# EAGLE library part MOUDLE-SEEEDUINO-XIAO (library tecsmith_seeedstudio_xiao)
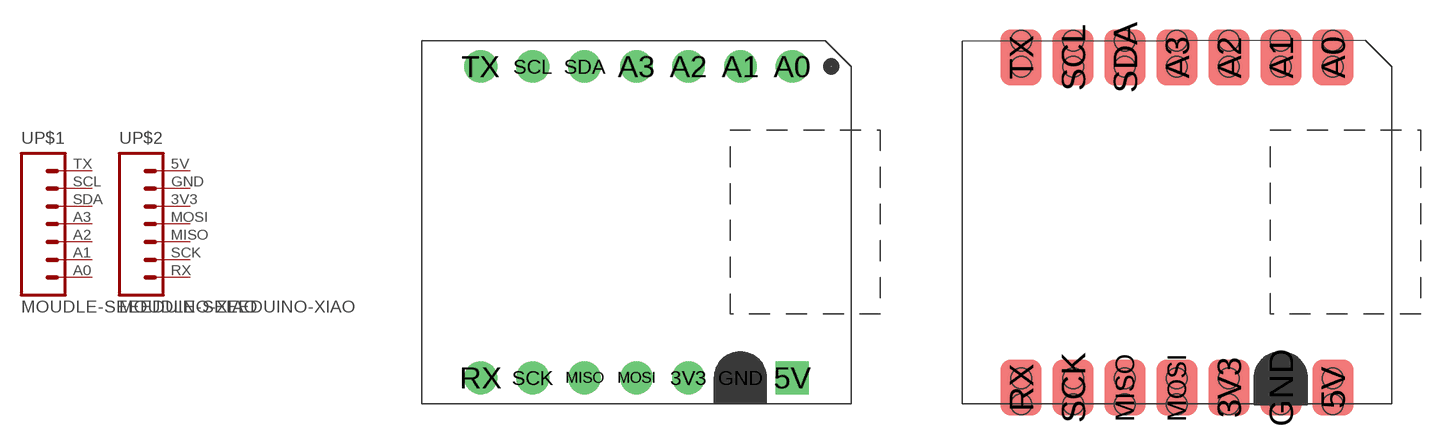
[diagram p0: symbol with the pads of MOUDLE14P-2.54-21X17.8MM; footprints MOUDLE14P-2.54-21X17.8MM, MOUDLE14P-SMD-2.54-21X17.8MM]

Designator prefix U; gates P$1=CONN_07 P$2=CONN_07

## MOUDLE-SEEEDUINO-XIAOTHD  [MOUDLE14P-2.54-21X17.8MM]
3V3  P$2:5  pas
5V  P$2:7  pas
A0  P$1:1  pas
A1  P$1:2  pas
A2  P$1:3  pas
A3  P$1:4  pas
GND  P$2:6  pas
MISO  P$2:3  pas
MOSI  P$2:4  pas
RX  P$2:1  pas
SCK  P$2:2  pas
SCL  P$1:6  pas
SDA  P$1:5  pas
TX  P$1:7  pas

## MOUDLE-SEEEDUINO-XIAOSMD  [MOUDLE14P-SMD-2.54-21X17.8MM]
Pads as for MOUDLE14P-2.54-21X17.8MM

## MOUDLE-SEEEDUINO-XIAOTHD-L  [MOUDLE14P-2.54-21X17.8MM-OFS]
3V3@1  P$2:5  pas
5V@1  P$2:7  pas
A0@1  P$1:1  pas
A1@1  P$1:2  pas
A2@1  P$1:3  pas
A3@1  P$1:4  pas
GND@1  P$2:6  pas
MISO@1  P$2:3  pas
MOSI@1  P$2:4  pas
RX@1  P$2:1  pas
SCK@1  P$2:2  pas
SCL@1  P$1:6  pas
SDA@1  P$1:5  pas
TX@1  P$1:7  pas

## Footprint MOUDLE14P-2.54-21X17.8MM (pad centres in mm)
drill 1 pad 1.6: 3V3 2.54,-7.62; A0 7.62,7.62; A1 5.08,7.62; A2 2.54,7.62; A3 0,7.62; MISO -2.54,-7.62; MOSI 0,-7.62; RX -7.62,-7.62; SCK -5.08,-7.62; SCL -5.08,7.62; SDA -2.54,7.62; TX -7.62,7.62
drill 1 pad 1.6 square: 5V 7.62,-7.62
drill 1 pad 1.6 octagon: GND 5.08,-7.62

## Footprint MOUDLE14P-SMD-2.54-21X17.8MM (pad centres in mm)
smd 2 x 2.75: 3V3 2.54,-8.082; 5V 7.62,-8.082; A0 7.62,8.082; A1 5.08,8.082; A2 2.54,8.082; A3 0,8.082; GND 5.08,-8.082; MISO -2.54,-8.082; MOSI 0,-8.082; RX -7.62,-8.082; SCK -5.08,-8.082; SCL -5.08,8.082; SDA -2.54,8.082; TX -7.62,8.082

## Footprint MOUDLE14P-2.54-21X17.8MM-OFS (pad centres in mm)
drill 1 pad 1.6 offset: 3V3@1 2.54,-7.62; 5V@1 7.62,-7.62; A0@1 7.62,7.62; A1@1 5.08,7.62; A2@1 2.54,7.62; A3@1 0,7.62; GND@1 5.08,-7.62; MISO@1 -2.54,-7.62; MOSI@1 0,-7.62; RX@1 -7.62,-7.62; SCK@1 -5.08,-7.62; SCL@1 -5.08,7.62; SDA@1 -2.54,7.62; TX@1 -7.62,7.62
drill 1 pad 1.6: 3V3@2 2.54,-8.89; 5V@2 7.62,-8.89; A0@2 7.62,8.89; A1@2 5.08,8.89; A2@2 2.54,8.89; A3@2 0,8.89; GND@2 5.08,-8.89; MISO@2 -2.54,-8.89; MOSI@2 0,-8.89; RX@2 -7.62,-8.89; SCK@2 -5.08,-8.89; SCL@2 -5.08,8.89; SDA@2 -2.54,8.89; TX@2 -7.62,8.89